# EAGLE library part WMOI3_NO_OUTLINE (library WMOi3)
Wavecom WMOi3 GSM Modem connected with ribbon cable to Harwin M50-3602542 1.27mm Pitch DIL Surface Mount Pin Header. Without module outline or mounting holes.
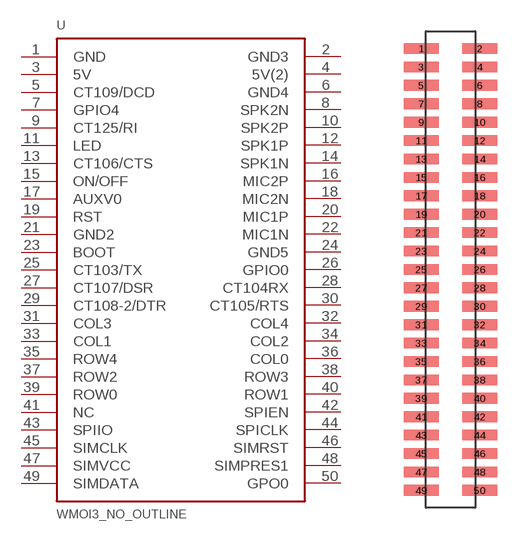
[diagram p2: symbol with the pads of WMOI3_NO_OUTLINE; footprint WMOI3_NO_OUTLINE]

Designator prefix -

## WMOI3_NO_OUTLINE  [WMOI3_NO_OUTLINE]
1  GND
2  GND3
3  5V
4  5V(2)
5  CT109/DCD
6  GND4
7  GPIO4
8  SPK2N
9  CT125/RI
10  SPK2P
11  LED
12  SPK1P
13  CT106/CTS
14  SPK1N
15  ON/OFF
16  MIC2P
17  AUXV0
18  MIC2N
19  RST
20  MIC1P
21  GND2
22  MIC1N
23  BOOT
24  GND5
25  CT103/TX
26  GPIO0
27  CT107/DSR
28  CT104RX
29  CT108-2/DTR
30  CT105/RTS
31  COL3
32  COL4
33  COL1
34  COL2
35  ROW4
36  COL0
37  ROW2
38  ROW3
39  ROW0
40  ROW1
41  NC
42  SPIEN
43  SPIIO
44  SPICLK
45  SIMCLK
46  SIMRST
47  SIMVCC
48  SIMPRES1
49  SIMDATA
50  GPO0

## Footprint WMOI3_NO_OUTLINE (pad centres in mm)
smd 2.4 x 0.74: 1 -2.54,15.24; 2 1.5,15.24; 3 -2.54,13.97; 4 1.5,13.97; 5 -2.54,12.7; 6 1.5,12.7; 7 -2.54,11.43; 8 1.5,11.43; 9 -2.54,10.16; 10 1.5,10.16; 11 -2.54,8.89; 12 1.5,8.89; 13 -2.54,7.62; 14 1.5,7.62; 15 -2.54,6.35; 16 1.5,6.35; 17 -2.54,5.08; 18 1.5,5.08; 19 -2.54,3.81; 20 1.5,3.81; 21 -2.54,2.54; 22 1.5,2.54; 23 -2.54,1.27; 24 1.5,1.27; 25 -2.54,0; 26 1.5,0; 27 -2.54,-1.27; 28 1.5,-1.27; 29 -2.54,-2.54; 30 1.5,-2.54; 31 -2.54,-3.81; 32 1.5,-3.81; 33 -2.54,-5.08; 34 1.5,-5.08; 35 -2.54,-6.35; 36 1.5,-6.35; 37 -2.54,-7.62; 38 1.5,-7.62; 39 -2.54,-8.89; 40 1.5,-8.89; 41 -2.54,-10.16; 42 1.5,-10.16; 43 -2.54,-11.43; 44 1.5,-11.43; 45 -2.54,-12.7; 46 1.5,-12.7; 47 -2.54,-13.97; 48 1.5,-13.97; 49 -2.54,-15.24; 50 1.5,-15.24